# Altium schematic symbol library Transistors.SchLib: 8 symbols
Pins are listed as number, name and electrical type; pins without a type are passive.

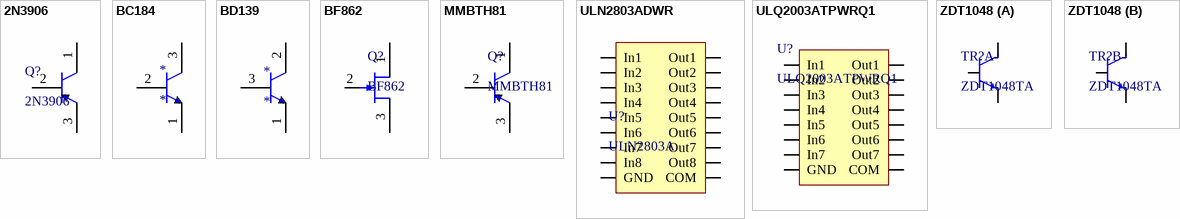
[diagram p0: symbols 2N3906 to ZDT1048]

## 2N3906
designator Q?
Supplier 1: Farnell; Supplier Part Number 1: 1504432
footprint 2N3906 (2N3906 Through hole)
pins: 1, 2, 3

## BC184
designator *
footprint BC184 (NPN transistor)
pins: 1, 2, 3

## BD139
designator *
footprint BD139
pins: 1, 2, 3

## BF862
designator Q?
JFET, N-Channel; Supplier 1: Farnell; Supplier Part Number 1: 1758058
simulation model BF862 (Model Description)
footprint SOT-23 (SOT23, 3-Leads, Body 2.92x2.31mm, Pitch 0.95mm, IPC Medium Density)
pins: 1, 2, 3

## MMBTH81
designator Q?
Transistor, BJT, PNP; Supplier 1: Farnell; Supplier Part Number 1: 1467935RL
simulation model MMBTH81 (Model Description)
pins: 1, 2, 3

## ULN2803ADWR
designator U?, comment ULN2803A
Darlington Transistor Array; Supplier 1: Farnell; Supplier Part Number 1: 1652420
footprint ULN2803A (Darlington Driver)
pins: 1 In1, 1 GND, 2 In2, 3 In3, 4 In4, 5 In5, 6 In6, 7 In7, 8 In8, 11 Out8, 12 Out7, 13 Out6, 14 Out5, 15 Out4, 16 Out3, 17 Out2, 18 Out1, 18 COM

## ULQ2003ATPWRQ1
designator U?
ULQ2003ATPWRQ1 Darligton Driver; Supplier 1: Mouser; Supplier 2: Arrow; Supplier 3: Digi-Key; Supplier Part Number 1: 595-ULQ2003ATPWRQ1; Supplier Part Number 2: HwWXZzR8LUNAmGscIdMq1nHftcXO7pAVEUDqtV8wt0M; Supplier Part Number 3: 296-27409-1-ND
footprint ULQ2003ATPWRQ1 (TSOP, 16-Leads, Body 5.00x4.40mm, Pitch 0.65mm, IPC Medium Density)
pins: 1 In1, 2 In2, 3 In3, 4 In4, 5 In5, 6 In6, 7 In7, 8 GND, 9 COM, 10 Out7, 11 Out6, 12 Out5, 13 Out4, 14 Out3, 15 Out2, 16 Out1

## ZDT1048
designator TR?, comment ZDT1048TA
Supplier 1: Mouser; Supplier Part Number 1: 522-ZDT1048TA
footprint ZDT1048 (ZDT1048 Matched Transistors)
part A pins: 3, 4, 5
part B pins: 1, 2, 6